# Altium schematic symbol library Hirose_ZX62R_B_5P.SchLib: 1 symbol
Pins are listed as number, name and electrical type; pins without a type are passive.

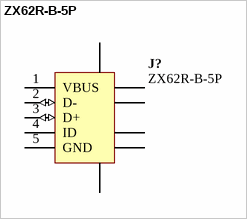
[diagram p0: symbol ZX62R-B-5P]

## ZX62R-B-5P
designator J?
Connector; USBMicro-B,Reverse type, SMT; 5 Position; Right Angle; ComponentLink1Description: Manufacturer URL; ComponentLink2Description: Datasheet; DatasheetVersion: 08/2010; ComponentLink1URL: http://www.hirose.com/â€Ž; ComponentLink2URL: http://www.hirose.co.jp/cataloge_hp/e24200011.pdf; Operating Temperature: -30 to 85 degC; PartNumber: ZX62R-B-5P; PackageDescription: 5-Pin USB Micro-B R/A Connector; Mounting Technology: Surface Mount; PackageReference: ZX62R-B-5P
footprint HIRO-ZX62R-B-5P_V
pins: 1 VBUS (power), 2 D- (io), 3 D+ (io), 4 ID, 5 GND (power), 6 SHLD, 7 SHLD, 8 SHLD, 9 SHLD, 10 SHLD, 11 SHLD